# Altium integrated library Linear Technology Power Management LDO Linear Regulators.IntLib: 2339 symbols (part 75 of 131)
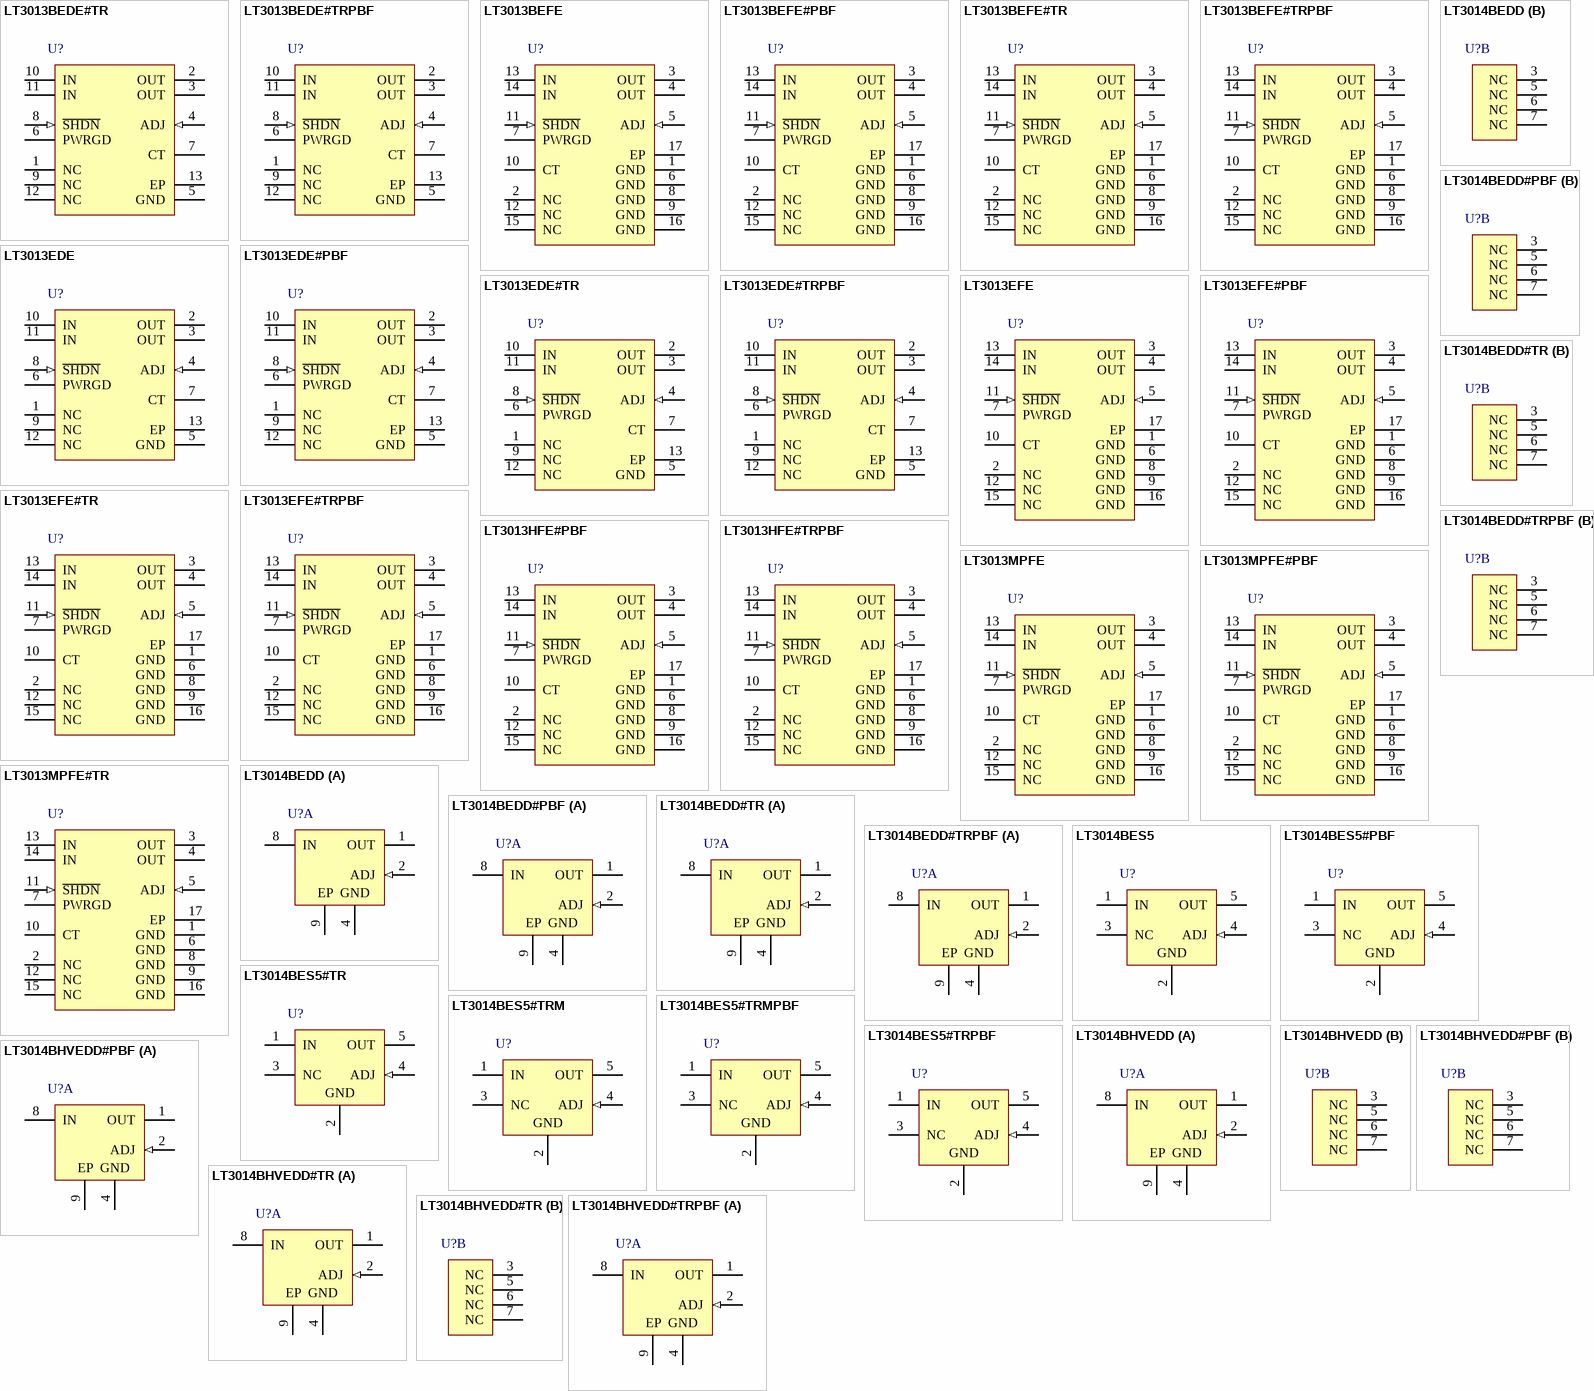
[diagram p143: symbols LT3013BEDE#TR to LT3014BHVEDD#TRPBF]

## LT3013MPFE
designator U?
250 mA, Low Dropout Micropower Linear Regulator with PWRGD, 4 to 80 V Vin, Adjustable Vout, 16-pin SOP (FE-16-EPV-BB), -55 to 125 degC; Manufacturer: Linear Technology; PartNumber: LT3013MPFE; Discrete Pass Element: no; Dropout Voltage(V): 0.4; Iout(mA): 250; Isupply(mA): 0.065; Noise(uV): 100; Number of Outputs: 1; Output Voltage: Adj; PSRR(dB): 75; Vin Max(V): 80; Vin Min(V): 4; Vout Max(V): 60; Vout Min(V): 1.24; DatasheetVersion: Rev. E; PackageVersion: Rev. J, 11/2012; PackageReference: FE-16; PackageDescription: 16-Pin Plastic TSSOP, Body 5 x 4.4 mm, Pitch 0.65 mm; Supplier 1: Newark; Supplier Part Number 1: 51P4628; RoHS: FALSE; Shutdown Current(uA): 1; Mounting Technology: Surface Mount; ComponentLink1Description: Manufacturer URL; ComponentLink1URL: http://www.linear.com/; ComponentLink2Description: Datasheet; ComponentLink2URL: http://cds.linear.com/docs/en/datasheet/3013fe.pdf; ComponentLink3Description: Package Specification; ComponentLink3URL: http://cds.linear.com/docs/en/packaging/05081663__J_FE16(BB).pdf
footprint LT-FE-16-EPV-BB_N (SOP, 16-Leads, Body 5.1x4.5mm, Pitch 0.65mm, Thermal Pad 3.58x2.94mm, IPC Medium Density)
footprint LT-FE-16-EPV-BB_L (SOP, 16-Leads, Body 5.1x4.5mm, Pitch 0.65mm, Thermal Pad 3.58x2.94mm, IPC High Density)
footprint LT-FE-16-EPV-BB_M (SOP, 16-Leads, Body 5.1x4.5mm, Pitch 0.65mm, Thermal Pad 3.58x2.94mm, IPC Low Density)
pins: 1 GND (power) "Ground. The exposed backside of the package is an electrical connection for GND. As such, to ensure optimum device operation and thermal performance, the exposed pad must be connected directly to Pin 5/Pin 6 on the PC board.", 2 NC "No Connect. These pins have no internal connection; connecting NC pins to a copper area for heat dissipation provides a small improvement in thermal performance.", 3 OUT (power) "Output. The output supplies power to the load. A minimum output capacitor of 3.3uF is required to prevent oscillations. Larger output capacitors will be required for applications with large transient loads to limit peak (See Datasheet)", 4 OUT (power) "Output. The output supplies power to the load. A minimum output capacitor of 3.3uF is required to prevent oscillations. Larger output capacitors will be required for applications with large transient loads to limit peak (See Datasheet)", 5 ADJ (in) "Adjust. This is the input to the error amplifier. This pin is internally clamped to +/-7V. It has a bias current of 30nA which flows into the pin (see curve of ADJ Pin Bias Current vs Temperature in the Typical Performance (See Datasheet)", 6 GND (power) "Ground. The exposed backside of the package is an electrical connection for GND. As such, to ensure optimum device operation and thermal performance, the exposed pad must be connected directly to Pin 5/Pin 6 on the PC board.", 7 PWRGD (hiz) "Power Good. The PWRGD flag is an open collector flag to indicate that the output voltage has come up to above 90% of the nominal output voltage. There is no internal pull-up on this pin; a pull-up resistor must be used. The (See Datasheet)", 8 GND (power) "Ground. The exposed backside of the package is an electrical connection for GND. As such, to ensure optimum device operation and thermal performance, the exposed pad must be connected directly to Pin 5/Pin 6 on the PC board.", 9 GND (power) "Ground. The exposed backside of the package is an electrical connection for GND. As such, to ensure optimum device operation and thermal performance, the exposed pad must be connected directly to Pin 5/Pin 6 on the PC board.", 10 CT "Timing Capacitor. The CT pin allows the use of a small capacitor to delay the timing between the point where the output crosses the PWRGD threshold and the PWRGD flag changes to a high impedance state. Current out of this (See Datasheet)", 11 ~{SHDN} (in) "Shutdown. The S\H\D\N\ pin is used to put the LT3013 into a low power shutdown state. The output will be off when the S\H\D\N\ pin is pulled low. The S\H\D\N\ pin can be driven either by 5V logic or open-collector logic with (See Datasheet)", 12 NC "No Connect. These pins have no internal connection; connecting NC pins to a copper area for heat dissipation provides a small improvement in thermal performance.", 13 IN (power) "Input. Power is supplied to the device through the IN pin. A bypass capacitor is required on this pin if the device is more than six inches away from the main input filter capacitor. In general, the output impedance of a (See Datasheet)", 14 IN (power) "Input. Power is supplied to the device through the IN pin. A bypass capacitor is required on this pin if the device is more than six inches away from the main input filter capacitor. In general, the output impedance of a (See Datasheet)", 15 NC "No Connect. These pins have no internal connection; connecting NC pins to a copper area for heat dissipation provides a small improvement in thermal performance.", 16 GND (power) "Ground. The exposed backside of the package is an electrical connection for GND. As such, to ensure optimum device operation and thermal performance, the exposed pad must be connected directly to Pin 5/Pin 6 on the PC board.", 17 EP (power) "Ground. The exposed backside of the package is an electrical connection for GND. As such, to ensure optimum device operation and thermal performance, the exposed pad must be connected directly to Pin 5/Pin 6 on the PC board."

## LT3013MPFE#PBF
designator U?
250 mA, Low Dropout Micropower Linear Regulator with PWRGD, 4 to 80 V Vin, Adjustable Vout, 16-pin SOP (FE-16-EPV-BB), -55 to 125 degC, Pb-Free; Manufacturer: Linear Technology; PartNumber: LT3013MPFE#PBF; Discrete Pass Element: no; Dropout Voltage(V): 0.4; Iout(mA): 250; Isupply(mA): 0.065; Noise(uV): 100; Number of Outputs: 1; Output Voltage: Adj; PSRR(dB): 75; Vin Max(V): 80; Vin Min(V): 4; Vout Max(V): 60; Vout Min(V): 1.24; DatasheetVersion: Rev. E; PackageVersion: Rev. J, 11/2012; PackageReference: FE-16; PackageDescription: 16-Pin Plastic TSSOP, Body 5 x 4.4 mm, Pitch 0.65 mm; Supplier 1: Digi-Key; Supplier Part Number 1: LT3013MPFE#PBF-ND; Supplier 2: Newark; Supplier Part Number 2: 25R2550; RoHS: TRUE; Shutdown Current(uA): 1; Mounting Technology: Surface Mount; ComponentLink1Description: Manufacturer URL; ComponentLink1URL: http://www.linear.com/; ComponentLink2Description: Datasheet; ComponentLink2URL: http://cds.linear.com/docs/en/datasheet/3013fe.pdf; ComponentLink3Description: Package Specification; ComponentLink3URL: http://cds.linear.com/docs/en/packaging/05081663__J_FE16(BB).pdf
footprint LT-FE-16-EPV-BB_N (SOP, 16-Leads, Body 5.1x4.5mm, Pitch 0.65mm, Thermal Pad 3.58x2.94mm, IPC Medium Density)
footprint LT-FE-16-EPV-BB_L (SOP, 16-Leads, Body 5.1x4.5mm, Pitch 0.65mm, Thermal Pad 3.58x2.94mm, IPC High Density)
footprint LT-FE-16-EPV-BB_M (SOP, 16-Leads, Body 5.1x4.5mm, Pitch 0.65mm, Thermal Pad 3.58x2.94mm, IPC Low Density)
pins: 1 GND (power) "Ground. The exposed backside of the package is an electrical connection for GND. As such, to ensure optimum device operation and thermal performance, the exposed pad must be connected directly to Pin 5/Pin 6 on the PC board.", 2 NC "No Connect. These pins have no internal connection; connecting NC pins to a copper area for heat dissipation provides a small improvement in thermal performance.", 3 OUT (power) "Output. The output supplies power to the load. A minimum output capacitor of 3.3uF is required to prevent oscillations. Larger output capacitors will be required for applications with large transient loads to limit peak (See Datasheet)", 4 OUT (power) "Output. The output supplies power to the load. A minimum output capacitor of 3.3uF is required to prevent oscillations. Larger output capacitors will be required for applications with large transient loads to limit peak (See Datasheet)", 5 ADJ (in) "Adjust. This is the input to the error amplifier. This pin is internally clamped to +/-7V. It has a bias current of 30nA which flows into the pin (see curve of ADJ Pin Bias Current vs Temperature in the Typical Performance (See Datasheet)", 6 GND (power) "Ground. The exposed backside of the package is an electrical connection for GND. As such, to ensure optimum device operation and thermal performance, the exposed pad must be connected directly to Pin 5/Pin 6 on the PC board.", 7 PWRGD (hiz) "Power Good. The PWRGD flag is an open collector flag to indicate that the output voltage has come up to above 90% of the nominal output voltage. There is no internal pull-up on this pin; a pull-up resistor must be used. The (See Datasheet)", 8 GND (power) "Ground. The exposed backside of the package is an electrical connection for GND. As such, to ensure optimum device operation and thermal performance, the exposed pad must be connected directly to Pin 5/Pin 6 on the PC board.", 9 GND (power) "Ground. The exposed backside of the package is an electrical connection for GND. As such, to ensure optimum device operation and thermal performance, the exposed pad must be connected directly to Pin 5/Pin 6 on the PC board.", 10 CT "Timing Capacitor. The CT pin allows the use of a small capacitor to delay the timing between the point where the output crosses the PWRGD threshold and the PWRGD flag changes to a high impedance state. Current out of this (See Datasheet)", 11 ~{SHDN} (in) "Shutdown. The S\H\D\N\ pin is used to put the LT3013 into a low power shutdown state. The output will be off when the S\H\D\N\ pin is pulled low. The S\H\D\N\ pin can be driven either by 5V logic or open-collector logic with (See Datasheet)", 12 NC "No Connect. These pins have no internal connection; connecting NC pins to a copper area for heat dissipation provides a small improvement in thermal performance.", 13 IN (power) "Input. Power is supplied to the device through the IN pin. A bypass capacitor is required on this pin if the device is more than six inches away from the main input filter capacitor. In general, the output impedance of a (See Datasheet)", 14 IN (power) "Input. Power is supplied to the device through the IN pin. A bypass capacitor is required on this pin if the device is more than six inches away from the main input filter capacitor. In general, the output impedance of a (See Datasheet)", 15 NC "No Connect. These pins have no internal connection; connecting NC pins to a copper area for heat dissipation provides a small improvement in thermal performance.", 16 GND (power) "Ground. The exposed backside of the package is an electrical connection for GND. As such, to ensure optimum device operation and thermal performance, the exposed pad must be connected directly to Pin 5/Pin 6 on the PC board.", 17 EP (power) "Ground. The exposed backside of the package is an electrical connection for GND. As such, to ensure optimum device operation and thermal performance, the exposed pad must be connected directly to Pin 5/Pin 6 on the PC board."

## LT3013MPFE#TR
designator U?
250 mA, Low Dropout Micropower Linear Regulator with PWRGD, 4 to 80 V Vin, Adjustable Vout, 16-pin SOP (FE-16-EPV-BB), -55 to 125 degC, Tape and Reel; Manufacturer: Linear Technology; PartNumber: LT3013MPFE#TR; Discrete Pass Element: no; Dropout Voltage(V): 0.4; Iout(mA): 250; Isupply(mA): 0.065; Noise(uV): 100; Number of Outputs: 1; Output Voltage: Adj; PSRR(dB): 75; Vin Max(V): 80; Vin Min(V): 4; Vout Max(V): 60; Vout Min(V): 1.24; DatasheetVersion: Rev. E; PackageVersion: Rev. J, 11/2012; PackageReference: FE-16; PackageDescription: 16-Pin Plastic TSSOP, Body 5 x 4.4 mm, Pitch 0.65 mm; Packing: Tape and Reel; RoHS: FALSE; Shutdown Current(uA): 1; Mounting Technology: Surface Mount; ComponentLink1Description: Manufacturer URL; ComponentLink1URL: http://www.linear.com/; ComponentLink2Description: Datasheet; ComponentLink2URL: http://cds.linear.com/docs/en/datasheet/3013fe.pdf; ComponentLink3Description: Package Specification; ComponentLink3URL: http://cds.linear.com/docs/en/packaging/05081663__J_FE16(BB).pdf
footprint LT-FE-16-EPV-BB_N (SOP, 16-Leads, Body 5.1x4.5mm, Pitch 0.65mm, Thermal Pad 3.58x2.94mm, IPC Medium Density)
footprint LT-FE-16-EPV-BB_L (SOP, 16-Leads, Body 5.1x4.5mm, Pitch 0.65mm, Thermal Pad 3.58x2.94mm, IPC High Density)
footprint LT-FE-16-EPV-BB_M (SOP, 16-Leads, Body 5.1x4.5mm, Pitch 0.65mm, Thermal Pad 3.58x2.94mm, IPC Low Density)
pins: 1 GND (power) "Ground. The exposed backside of the package is an electrical connection for GND. As such, to ensure optimum device operation and thermal performance, the exposed pad must be connected directly to Pin 5/Pin 6 on the PC board.", 2 NC "No Connect. These pins have no internal connection; connecting NC pins to a copper area for heat dissipation provides a small improvement in thermal performance.", 3 OUT (power) "Output. The output supplies power to the load. A minimum output capacitor of 3.3uF is required to prevent oscillations. Larger output capacitors will be required for applications with large transient loads to limit peak (See Datasheet)", 4 OUT (power) "Output. The output supplies power to the load. A minimum output capacitor of 3.3uF is required to prevent oscillations. Larger output capacitors will be required for applications with large transient loads to limit peak (See Datasheet)", 5 ADJ (in) "Adjust. This is the input to the error amplifier. This pin is internally clamped to +/-7V. It has a bias current of 30nA which flows into the pin (see curve of ADJ Pin Bias Current vs Temperature in the Typical Performance (See Datasheet)", 6 GND (power) "Ground. The exposed backside of the package is an electrical connection for GND. As such, to ensure optimum device operation and thermal performance, the exposed pad must be connected directly to Pin 5/Pin 6 on the PC board.", 7 PWRGD (hiz) "Power Good. The PWRGD flag is an open collector flag to indicate that the output voltage has come up to above 90% of the nominal output voltage. There is no internal pull-up on this pin; a pull-up resistor must be used. The (See Datasheet)", 8 GND (power) "Ground. The exposed backside of the package is an electrical connection for GND. As such, to ensure optimum device operation and thermal performance, the exposed pad must be connected directly to Pin 5/Pin 6 on the PC board.", 9 GND (power) "Ground. The exposed backside of the package is an electrical connection for GND. As such, to ensure optimum device operation and thermal performance, the exposed pad must be connected directly to Pin 5/Pin 6 on the PC board.", 10 CT "Timing Capacitor. The CT pin allows the use of a small capacitor to delay the timing between the point where the output crosses the PWRGD threshold and the PWRGD flag changes to a high impedance state. Current out of this (See Datasheet)", 11 ~{SHDN} (in) "Shutdown. The S\H\D\N\ pin is used to put the LT3013 into a low power shutdown state. The output will be off when the S\H\D\N\ pin is pulled low. The S\H\D\N\ pin can be driven either by 5V logic or open-collector logic with (See Datasheet)", 12 NC "No Connect. These pins have no internal connection; connecting NC pins to a copper area for heat dissipation provides a small improvement in thermal performance.", 13 IN (power) "Input. Power is supplied to the device through the IN pin. A bypass capacitor is required on this pin if the device is more than six inches away from the main input filter capacitor. In general, the output impedance of a (See Datasheet)", 14 IN (power) "Input. Power is supplied to the device through the IN pin. A bypass capacitor is required on this pin if the device is more than six inches away from the main input filter capacitor. In general, the output impedance of a (See Datasheet)", 15 NC "No Connect. These pins have no internal connection; connecting NC pins to a copper area for heat dissipation provides a small improvement in thermal performance.", 16 GND (power) "Ground. The exposed backside of the package is an electrical connection for GND. As such, to ensure optimum device operation and thermal performance, the exposed pad must be connected directly to Pin 5/Pin 6 on the PC board.", 17 EP (power) "Ground. The exposed backside of the package is an electrical connection for GND. As such, to ensure optimum device operation and thermal performance, the exposed pad must be connected directly to Pin 5/Pin 6 on the PC board."

## LT3014BEDD
designator U?
20 mA, Low Dropout Micropower Linear Regulator, 3 to 80 V Vin, Adjustable Vout, 8-pin SON (DD-8), -40 to 125 degC; Manufacturer: Linear Technology; PartNumber: LT3014BEDD; Discrete Pass Element: no; Dropout Voltage(V): 0.35; Iout(mA): 20; Isupply(mA): 0.007; Noise(uV): 115; Number of Outputs: 1; Output Voltage: Adj; PSRR(dB): 70; Vin Max(V): 80; Vin Min(V): 3; Vout Max(V): 60; Vout Min(V): 1.22; DatasheetVersion: Rev. A; PackageVersion: Jun-10; PackageReference: DD-8; PackageDescription: 8-Pin Plastic DFN, Body 3 x 3 mm, Pitch 0.5 mm; RoHS: FALSE; Mounting Technology: Surface Mount; Code_JEDEC: MO-229; ComponentLink1Description: Manufacturer URL; ComponentLink1URL: http://www.linear.com/; ComponentLink2Description: Datasheet; ComponentLink2URL: http://cds.linear.com/docs/en/datasheet/3014bfa.pdf; ComponentLink3Description: Package Specification; ComponentLink3URL: http://cds.linear.com/docs/en/packaging/DFN_8_05-08-1698.pdf
footprint LT-DD-8_V (SON, 8-Leads, Body 3x3mm, Pitch 0.5mm, Thermal Pad 1.65x2.38 mm, IPC Low Density)
part A pins: 1 OUT (power) "Output. The output supplies power to the load. A minimum output capacitor of 0.47uF is required to prevent oscillations. Larger output capacitors will be required for applications with large transient loads to limit peak (See Datasheet)", 2 ADJ (in) "Adjust. This is the input to the error amplifier. This pin is internally clamped to +/-7V. It has a bias current of 4nA which flows into the pin (see curve of ADJ Pin Bias Current vs Temperature in the Typical Performance (See Datasheet)", 4 GND (power) "Ground.", 8 IN (power) "Input. Power is supplied to the device through the IN pin. A bypass capacitor is required on this pin if the device is more than six inches away from the main input filter capacitor. In general, the output impedance of a (See Datasheet)", 9 EP (power)
part B pins: 3 NC "No Connect. No Connect pins may be floated, tied to IN or tied to GND.", 5 NC "No Connect. No Connect pins may be floated, tied to IN or tied to GND.", 6 NC "No Connect. No Connect pins may be floated, tied to IN or tied to GND.", 7 NC "No Connect. No Connect pins may be floated, tied to IN or tied to GND."

## LT3014BEDD#PBF
designator U?
20 mA, Low Dropout Micropower Linear Regulator, 3 to 80 V Vin, Adjustable Vout, 8-pin SON (DD-8), -40 to 125 degC, Pb-Free; Manufacturer: Linear Technology; PartNumber: LT3014BEDD#PBF; Discrete Pass Element: no; Dropout Voltage(V): 0.35; Iout(mA): 20; Isupply(mA): 0.007; Noise(uV): 115; Number of Outputs: 1; Output Voltage: Adj; PSRR(dB): 70; Vin Max(V): 80; Vin Min(V): 3; Vout Max(V): 60; Vout Min(V): 1.22; DatasheetVersion: Rev. A; PackageVersion: Jun-10; PackageReference: DD-8; PackageDescription: 8-Pin Plastic DFN, Body 3 x 3 mm, Pitch 0.5 mm; Supplier 1: Digi-Key; Supplier Part Number 1: LT3014BEDD#PBF-ND; Supplier 2: Farnell; Supplier Part Number 2: 2295247; Supplier 3: Newark; Supplier Part Number 3: 57M7887; RoHS: TRUE; Mounting Technology: Surface Mount; Code_JEDEC: MO-229; ComponentLink1Description: Manufacturer URL; ComponentLink1URL: http://www.linear.com/; ComponentLink2Description: Datasheet; ComponentLink2URL: http://cds.linear.com/docs/en/datasheet/3014bfa.pdf; ComponentLink3Description: Package Specification; ComponentLink3URL: http://cds.linear.com/docs/en/packaging/DFN_8_05-08-1698.pdf
footprint LT-DD-8_V (SON, 8-Leads, Body 3x3mm, Pitch 0.5mm, Thermal Pad 1.65x2.38 mm, IPC Low Density)
part A pins: 1 OUT (power) "Output. The output supplies power to the load. A minimum output capacitor of 0.47uF is required to prevent oscillations. Larger output capacitors will be required for applications with large transient loads to limit peak (See Datasheet)", 2 ADJ (in) "Adjust. This is the input to the error amplifier. This pin is internally clamped to +/-7V. It has a bias current of 4nA which flows into the pin (see curve of ADJ Pin Bias Current vs Temperature in the Typical Performance (See Datasheet)", 4 GND (power) "Ground.", 8 IN (power) "Input. Power is supplied to the device through the IN pin. A bypass capacitor is required on this pin if the device is more than six inches away from the main input filter capacitor. In general, the output impedance of a (See Datasheet)", 9 EP (power)
part B pins: 3 NC "No Connect. No Connect pins may be floated, tied to IN or tied to GND.", 5 NC "No Connect. No Connect pins may be floated, tied to IN or tied to GND.", 6 NC "No Connect. No Connect pins may be floated, tied to IN or tied to GND.", 7 NC "No Connect. No Connect pins may be floated, tied to IN or tied to GND."

## LT3014BEDD#TR
designator U?
20 mA, Low Dropout Micropower Linear Regulator, 3 to 80 V Vin, Adjustable Vout, 8-pin SON (DD-8), -40 to 125 degC, Tape and Reel; Manufacturer: Linear Technology; PartNumber: LT3014BEDD#TR; Discrete Pass Element: no; Dropout Voltage(V): 0.35; Iout(mA): 20; Isupply(mA): 0.007; Noise(uV): 115; Number of Outputs: 1; Output Voltage: Adj; PSRR(dB): 70; Vin Max(V): 80; Vin Min(V): 3; Vout Max(V): 60; Vout Min(V): 1.22; DatasheetVersion: Rev. A; PackageVersion: Jun-10; PackageReference: DD-8; PackageDescription: 8-Pin Plastic DFN, Body 3 x 3 mm, Pitch 0.5 mm; Packing: Tape and Reel; RoHS: FALSE; Mounting Technology: Surface Mount; Code_JEDEC: MO-229; ComponentLink1Description: Manufacturer URL; ComponentLink1URL: http://www.linear.com/; ComponentLink2Description: Datasheet; ComponentLink2URL: http://cds.linear.com/docs/en/datasheet/3014bfa.pdf; ComponentLink3Description: Package Specification; ComponentLink3URL: http://cds.linear.com/docs/en/packaging/DFN_8_05-08-1698.pdf
footprint LT-DD-8_V (SON, 8-Leads, Body 3x3mm, Pitch 0.5mm, Thermal Pad 1.65x2.38 mm, IPC Low Density)
part A pins: 1 OUT (power) "Output. The output supplies power to the load. A minimum output capacitor of 0.47uF is required to prevent oscillations. Larger output capacitors will be required for applications with large transient loads to limit peak (See Datasheet)", 2 ADJ (in) "Adjust. This is the input to the error amplifier. This pin is internally clamped to +/-7V. It has a bias current of 4nA which flows into the pin (see curve of ADJ Pin Bias Current vs Temperature in the Typical Performance (See Datasheet)", 4 GND (power) "Ground.", 8 IN (power) "Input. Power is supplied to the device through the IN pin. A bypass capacitor is required on this pin if the device is more than six inches away from the main input filter capacitor. In general, the output impedance of a (See Datasheet)", 9 EP (power)
part B pins: 3 NC "No Connect. No Connect pins may be floated, tied to IN or tied to GND.", 5 NC "No Connect. No Connect pins may be floated, tied to IN or tied to GND.", 6 NC "No Connect. No Connect pins may be floated, tied to IN or tied to GND.", 7 NC "No Connect. No Connect pins may be floated, tied to IN or tied to GND."

## LT3014BEDD#TRPBF
designator U?
20 mA, Low Dropout Micropower Linear Regulator, 3 to 80 V Vin, Adjustable Vout, 8-pin SON (DD-8), -40 to 125 degC, Pb-Free, Tape and Reel; Manufacturer: Linear Technology; PartNumber: LT3014BEDD#TRPBF; Discrete Pass Element: no; Dropout Voltage(V): 0.35; Iout(mA): 20; Isupply(mA): 0.007; Noise(uV): 115; Number of Outputs: 1; Output Voltage: Adj; PSRR(dB): 70; Vin Max(V): 80; Vin Min(V): 3; Vout Max(V): 60; Vout Min(V): 1.22; DatasheetVersion: Rev. A; PackageVersion: Jun-10; PackageReference: DD-8; PackageDescription: 8-Pin Plastic DFN, Body 3 x 3 mm, Pitch 0.5 mm; Supplier 1: Digi-Key; Supplier Part Number 1: LT3014BEDD#TRPBF-ND; Packing: Tape and Reel; RoHS: TRUE; Mounting Technology: Surface Mount; Code_JEDEC: MO-229; ComponentLink1Description: Manufacturer URL; ComponentLink1URL: http://www.linear.com/; ComponentLink2Description: Datasheet; ComponentLink2URL: http://cds.linear.com/docs/en/datasheet/3014bfa.pdf; ComponentLink3Description: Package Specification; ComponentLink3URL: http://cds.linear.com/docs/en/packaging/DFN_8_05-08-1698.pdf
footprint LT-DD-8_V (SON, 8-Leads, Body 3x3mm, Pitch 0.5mm, Thermal Pad 1.65x2.38 mm, IPC Low Density)
part A pins: 1 OUT (power) "Output. The output supplies power to the load. A minimum output capacitor of 0.47uF is required to prevent oscillations. Larger output capacitors will be required for applications with large transient loads to limit peak (See Datasheet)", 2 ADJ (in) "Adjust. This is the input to the error amplifier. This pin is internally clamped to +/-7V. It has a bias current of 4nA which flows into the pin (see curve of ADJ Pin Bias Current vs Temperature in the Typical Performance (See Datasheet)", 4 GND (power) "Ground.", 8 IN (power) "Input. Power is supplied to the device through the IN pin. A bypass capacitor is required on this pin if the device is more than six inches away from the main input filter capacitor. In general, the output impedance of a (See Datasheet)", 9 EP (power)
part B pins: 3 NC "No Connect. No Connect pins may be floated, tied to IN or tied to GND.", 5 NC "No Connect. No Connect pins may be floated, tied to IN or tied to GND.", 6 NC "No Connect. No Connect pins may be floated, tied to IN or tied to GND.", 7 NC "No Connect. No Connect pins may be floated, tied to IN or tied to GND."

## LT3014BES5
designator U?
20 mA, Low Dropout Micropower Linear Regulator, 3 to 80 V Vin, Adjustable Vout, 5-pin SOT23 (S5-5), -40 to 125 degC; Manufacturer: Linear Technology; PartNumber: LT3014BES5; Discrete Pass Element: no; Dropout Voltage(V): 0.35; Iout(mA): 20; Isupply(mA): 0.007; Noise(uV): 115; Number of Outputs: 1; Output Voltage: Adj; PSRR(dB): 70; Vin Max(V): 80; Vin Min(V): 3; Vout Max(V): 60; Vout Min(V): 1.22; DatasheetVersion: Rev. A; PackageVersion: Jun-10; PackageReference: S5-5; PackageDescription: 5-Pin Plastic TSOT-23, Body 1.63 x 2.90 mm, Pitch 0.95 mm; RoHS: FALSE; Mounting Technology: Surface Mount; Code_JEDEC: MO-193; ComponentLink1Description: Manufacturer URL; ComponentLink1URL: http://www.linear.com/; ComponentLink2Description: Datasheet; ComponentLink2URL: http://cds.linear.com/docs/en/datasheet/3014bfa.pdf; ComponentLink3Description: Package Specification; ComponentLink3URL: http://cds.linear.com/docs/en/packaging/SOT_5_05-08-1635.pdf
footprint LT-S5-5-TSOT-23_N (SOT23, 5-Leads, Body 2.90x1.63mm, Pitch 0.95mm, IPC Medium Density)
footprint LT-S5-5-TSOT-23_L (SOT23, 5-Leads, Body 2.90x1.63mm, Pitch 0.95mm, IPC High Density)
footprint LT-S5-5-TSOT-23_M (SOT23, 5-Leads, Body 2.90x1.63mm, Pitch 0.95mm, IPC Low Density)
pins: 1 IN (power) "Input. Power is supplied to the device through the IN pin. A bypass capacitor is required on this pin if the device is more than six inches away from the main input filter capacitor. In general, the output impedance of a (See Datasheet)", 2 GND (power) "Ground.", 3 NC "No Connect. No Connect pins may be floated, tied to IN or tied to GND.", 4 ADJ (in) "Adjust. This is the input to the error amplifier. This pin is internally clamped to +/-7V. It has a bias current of 4nA which flows into the pin (see curve of ADJ Pin Bias Current vs Temperature in the Typical Performance (See Datasheet)", 5 OUT (power) "Output. The output supplies power to the load. A minimum output capacitor of 0.47uF is required to prevent oscillations. Larger output capacitors will be required for applications with large transient loads to limit peak (See Datasheet)"

## LT3014BES5#PBF
designator U?
20 mA, Low Dropout Micropower Linear Regulator, 3 to 80 V Vin, Adjustable Vout, 5-pin SOT23 (S5-5), -40 to 125 degC, Pb-Free; Manufacturer: Linear Technology; PartNumber: LT3014BES5#PBF; Discrete Pass Element: no; Dropout Voltage(V): 0.35; Iout(mA): 20; Isupply(mA): 0.007; Noise(uV): 115; Number of Outputs: 1; Output Voltage: Adj; PSRR(dB): 70; Vin Max(V): 80; Vin Min(V): 3; Vout Max(V): 60; Vout Min(V): 1.22; DatasheetVersion: Rev. A; PackageVersion: Jun-10; PackageReference: S5-5; PackageDescription: 5-Pin Plastic TSOT-23, Body 1.63 x 2.90 mm, Pitch 0.95 mm; Supplier 1: Newark; Supplier Part Number 1: 86R9193; RoHS: TRUE; Mounting Technology: Surface Mount; Code_JEDEC: MO-193; ComponentLink1Description: Manufacturer URL; ComponentLink1URL: http://www.linear.com/; ComponentLink2Description: Datasheet; ComponentLink2URL: http://cds.linear.com/docs/en/datasheet/3014bfa.pdf; ComponentLink3Description: Package Specification; ComponentLink3URL: http://cds.linear.com/docs/en/packaging/SOT_5_05-08-1635.pdf
footprint LT-S5-5-TSOT-23_N (SOT23, 5-Leads, Body 2.90x1.63mm, Pitch 0.95mm, IPC Medium Density)
footprint LT-S5-5-TSOT-23_L (SOT23, 5-Leads, Body 2.90x1.63mm, Pitch 0.95mm, IPC High Density)
footprint LT-S5-5-TSOT-23_M (SOT23, 5-Leads, Body 2.90x1.63mm, Pitch 0.95mm, IPC Low Density)
pins: 1 IN (power) "Input. Power is supplied to the device through the IN pin. A bypass capacitor is required on this pin if the device is more than six inches away from the main input filter capacitor. In general, the output impedance of a (See Datasheet)", 2 GND (power) "Ground.", 3 NC "No Connect. No Connect pins may be floated, tied to IN or tied to GND.", 4 ADJ (in) "Adjust. This is the input to the error amplifier. This pin is internally clamped to +/-7V. It has a bias current of 4nA which flows into the pin (see curve of ADJ Pin Bias Current vs Temperature in the Typical Performance (See Datasheet)", 5 OUT (power) "Output. The output supplies power to the load. A minimum output capacitor of 0.47uF is required to prevent oscillations. Larger output capacitors will be required for applications with large transient loads to limit peak (See Datasheet)"

## LT3014BES5#TR
designator U?
20 mA, Low Dropout Micropower Linear Regulator, 3 to 80 V Vin, Adjustable Vout, 5-pin SOT23 (S5-5), -40 to 125 degC, Tape and Reel; Manufacturer: Linear Technology; PartNumber: LT3014BES5#TR; Discrete Pass Element: no; Dropout Voltage(V): 0.35; Iout(mA): 20; Isupply(mA): 0.007; Noise(uV): 115; Number of Outputs: 1; Output Voltage: Adj; PSRR(dB): 70; Vin Max(V): 80; Vin Min(V): 3; Vout Max(V): 60; Vout Min(V): 1.22; DatasheetVersion: Rev. A; PackageVersion: Jun-10; PackageReference: S5-5; PackageDescription: 5-Pin Plastic TSOT-23, Body 1.63 x 2.90 mm, Pitch 0.95 mm; Supplier 1: Newark; Supplier Part Number 1: 57M7890; Packing: Tape and Reel; RoHS: FALSE; Mounting Technology: Surface Mount; Code_JEDEC: MO-193; ComponentLink1Description: Manufacturer URL; ComponentLink1URL: http://www.linear.com/; ComponentLink2Description: Datasheet; ComponentLink2URL: http://cds.linear.com/docs/en/datasheet/3014bfa.pdf; ComponentLink3Description: Package Specification; ComponentLink3URL: http://cds.linear.com/docs/en/packaging/SOT_5_05-08-1635.pdf
footprint LT-S5-5-TSOT-23_N (SOT23, 5-Leads, Body 2.90x1.63mm, Pitch 0.95mm, IPC Medium Density)
footprint LT-S5-5-TSOT-23_L (SOT23, 5-Leads, Body 2.90x1.63mm, Pitch 0.95mm, IPC High Density)
footprint LT-S5-5-TSOT-23_M (SOT23, 5-Leads, Body 2.90x1.63mm, Pitch 0.95mm, IPC Low Density)
pins: 1 IN (power) "Input. Power is supplied to the device through the IN pin. A bypass capacitor is required on this pin if the device is more than six inches away from the main input filter capacitor. In general, the output impedance of a (See Datasheet)", 2 GND (power) "Ground.", 3 NC "No Connect. No Connect pins may be floated, tied to IN or tied to GND.", 4 ADJ (in) "Adjust. This is the input to the error amplifier. This pin is internally clamped to +/-7V. It has a bias current of 4nA which flows into the pin (see curve of ADJ Pin Bias Current vs Temperature in the Typical Performance (See Datasheet)", 5 OUT (power) "Output. The output supplies power to the load. A minimum output capacitor of 0.47uF is required to prevent oscillations. Larger output capacitors will be required for applications with large transient loads to limit peak (See Datasheet)"

## LT3014BES5#TRM
designator U?
20 mA, Low Dropout Micropower Linear Regulator, 3 to 80 V Vin, Adjustable Vout, 5-pin SOT23 (S5-5), -40 to 125 degC, Mini Tape and Reel; Manufacturer: Linear Technology; PartNumber: LT3014BES5#TRM; Discrete Pass Element: no; Dropout Voltage(V): 0.35; Iout(mA): 20; Isupply(mA): 0.007; Noise(uV): 115; Number of Outputs: 1; Output Voltage: Adj; PSRR(dB): 70; Vin Max(V): 80; Vin Min(V): 3; Vout Max(V): 60; Vout Min(V): 1.22; DatasheetVersion: Rev. A; PackageVersion: Jun-10; PackageReference: S5-5; PackageDescription: 5-Pin Plastic TSOT-23, Body 1.63 x 2.90 mm, Pitch 0.95 mm; Packing: Mini Tape and Reel; RoHS: FALSE; Mounting Technology: Surface Mount; Code_JEDEC: MO-193; ComponentLink1Description: Manufacturer URL; ComponentLink1URL: http://www.linear.com/; ComponentLink2Description: Datasheet; ComponentLink2URL: http://cds.linear.com/docs/en/datasheet/3014bfa.pdf; ComponentLink3Description: Package Specification; ComponentLink3URL: http://cds.linear.com/docs/en/packaging/SOT_5_05-08-1635.pdf
footprint LT-S5-5-TSOT-23_N (SOT23, 5-Leads, Body 2.90x1.63mm, Pitch 0.95mm, IPC Medium Density)
footprint LT-S5-5-TSOT-23_L (SOT23, 5-Leads, Body 2.90x1.63mm, Pitch 0.95mm, IPC High Density)
footprint LT-S5-5-TSOT-23_M (SOT23, 5-Leads, Body 2.90x1.63mm, Pitch 0.95mm, IPC Low Density)
pins: 1 IN (power) "Input. Power is supplied to the device through the IN pin. A bypass capacitor is required on this pin if the device is more than six inches away from the main input filter capacitor. In general, the output impedance of a (See Datasheet)", 2 GND (power) "Ground.", 3 NC "No Connect. No Connect pins may be floated, tied to IN or tied to GND.", 4 ADJ (in) "Adjust. This is the input to the error amplifier. This pin is internally clamped to +/-7V. It has a bias current of 4nA which flows into the pin (see curve of ADJ Pin Bias Current vs Temperature in the Typical Performance (See Datasheet)", 5 OUT (power) "Output. The output supplies power to the load. A minimum output capacitor of 0.47uF is required to prevent oscillations. Larger output capacitors will be required for applications with large transient loads to limit peak (See Datasheet)"

## LT3014BES5#TRMPBF
designator U?
20 mA, Low Dropout Micropower Linear Regulator, 3 to 80 V Vin, Adjustable Vout, 5-pin SOT23 (S5-5), -40 to 125 degC, Pb-Free, Mini Tape and Reel; Manufacturer: Linear Technology; PartNumber: LT3014BES5#TRMPBF; Discrete Pass Element: no; Dropout Voltage(V): 0.35; Iout(mA): 20; Isupply(mA): 0.007; Noise(uV): 115; Number of Outputs: 1; Output Voltage: Adj; PSRR(dB): 70; Vin Max(V): 80; Vin Min(V): 3; Vout Max(V): 60; Vout Min(V): 1.22; DatasheetVersion: Rev. A; PackageVersion: Jun-10; PackageReference: S5-5; PackageDescription: 5-Pin Plastic TSOT-23, Body 1.63 x 2.90 mm, Pitch 0.95 mm; Supplier 1: Digi-Key; Supplier Part Number 1: LT3014BES5#TRMPBFTR-ND; Supplier 2: Digi-Key; Supplier Part Number 2: LT3014BES5#TRMPBFCT-ND; Supplier 3: Digi-Key; Supplier Part Number 3: LT3014BES5#TRMPBFDKR-ND; Supplier 4: Newark; Supplier Part Number 4: 57M7892; Packing: Mini Tape and Reel; RoHS: TRUE; Mounting Technology: Surface Mount; Code_JEDEC: MO-193; ComponentLink1Description: Manufacturer URL; ComponentLink1URL: http://www.linear.com/; ComponentLink2Description: Datasheet; ComponentLink2URL: http://cds.linear.com/docs/en/datasheet/3014bfa.pdf; ComponentLink3Description: Package Specification; ComponentLink3URL: http://cds.linear.com/docs/en/packaging/SOT_5_05-08-1635.pdf
footprint LT-S5-5-TSOT-23_N (SOT23, 5-Leads, Body 2.90x1.63mm, Pitch 0.95mm, IPC Medium Density)
footprint LT-S5-5-TSOT-23_L (SOT23, 5-Leads, Body 2.90x1.63mm, Pitch 0.95mm, IPC High Density)
footprint LT-S5-5-TSOT-23_M (SOT23, 5-Leads, Body 2.90x1.63mm, Pitch 0.95mm, IPC Low Density)
pins: 1 IN (power) "Input. Power is supplied to the device through the IN pin. A bypass capacitor is required on this pin if the device is more than six inches away from the main input filter capacitor. In general, the output impedance of a (See Datasheet)", 2 GND (power) "Ground.", 3 NC "No Connect. No Connect pins may be floated, tied to IN or tied to GND.", 4 ADJ (in) "Adjust. This is the input to the error amplifier. This pin is internally clamped to +/-7V. It has a bias current of 4nA which flows into the pin (see curve of ADJ Pin Bias Current vs Temperature in the Typical Performance (See Datasheet)", 5 OUT (power) "Output. The output supplies power to the load. A minimum output capacitor of 0.47uF is required to prevent oscillations. Larger output capacitors will be required for applications with large transient loads to limit peak (See Datasheet)"

## LT3014BES5#TRPBF
designator U?
20 mA, Low Dropout Micropower Linear Regulator, 3 to 80 V Vin, Adjustable Vout, 5-pin SOT23 (S5-5), -40 to 125 degC, Pb-Free, Tape and Reel; Manufacturer: Linear Technology; PartNumber: LT3014BES5#TRPBF; Discrete Pass Element: no; Dropout Voltage(V): 0.35; Iout(mA): 20; Isupply(mA): 0.007; Noise(uV): 115; Number of Outputs: 1; Output Voltage: Adj; PSRR(dB): 70; Vin Max(V): 80; Vin Min(V): 3; Vout Max(V): 60; Vout Min(V): 1.22; DatasheetVersion: Rev. A; PackageVersion: Jun-10; PackageReference: S5-5; PackageDescription: 5-Pin Plastic TSOT-23, Body 1.63 x 2.90 mm, Pitch 0.95 mm; Supplier 1: Digi-Key; Supplier Part Number 1: LT3014BES5#TRPBF-ND; Supplier 2: Newark; Supplier Part Number 2: 57M7893; Packing: Tape and Reel; RoHS: TRUE; Mounting Technology: Surface Mount; Code_JEDEC: MO-193; ComponentLink1Description: Manufacturer URL; ComponentLink1URL: http://www.linear.com/; ComponentLink2Description: Datasheet; ComponentLink2URL: http://cds.linear.com/docs/en/datasheet/3014bfa.pdf; ComponentLink3Description: Package Specification; ComponentLink3URL: http://cds.linear.com/docs/en/packaging/SOT_5_05-08-1635.pdf
footprint LT-S5-5-TSOT-23_N (SOT23, 5-Leads, Body 2.90x1.63mm, Pitch 0.95mm, IPC Medium Density)
footprint LT-S5-5-TSOT-23_L (SOT23, 5-Leads, Body 2.90x1.63mm, Pitch 0.95mm, IPC High Density)
footprint LT-S5-5-TSOT-23_M (SOT23, 5-Leads, Body 2.90x1.63mm, Pitch 0.95mm, IPC Low Density)
pins: 1 IN (power) "Input. Power is supplied to the device through the IN pin. A bypass capacitor is required on this pin if the device is more than six inches away from the main input filter capacitor. In general, the output impedance of a (See Datasheet)", 2 GND (power) "Ground.", 3 NC "No Connect. No Connect pins may be floated, tied to IN or tied to GND.", 4 ADJ (in) "Adjust. This is the input to the error amplifier. This pin is internally clamped to +/-7V. It has a bias current of 4nA which flows into the pin (see curve of ADJ Pin Bias Current vs Temperature in the Typical Performance (See Datasheet)", 5 OUT (power) "Output. The output supplies power to the load. A minimum output capacitor of 0.47uF is required to prevent oscillations. Larger output capacitors will be required for applications with large transient loads to limit peak (See Datasheet)"

## LT3014BHVEDD
designator U?
20 mA, Low Dropout Micropower Linear Regulator, 3 to 80 V Vin, Adjustable Vout, 8-pin SON (DD-8), -40 to 125 degC; Manufacturer: Linear Technology; PartNumber: LT3014BHVEDD; Discrete Pass Element: no; Dropout Voltage(V): 0.35; Iout(mA): 20; Isupply(mA): 0.007; Noise(uV): 115; Number of Outputs: 1; Output Voltage: Adj; PSRR(dB): 70; Vin Max(V): 80; Vin Min(V): 3; Vout Max(V): 60; Vout Min(V): 1.22; DatasheetVersion: Rev. A; PackageVersion: Jun-10; PackageReference: DD-8; PackageDescription: 8-Pin Plastic DFN, Body 3 x 3 mm, Pitch 0.5 mm; RoHS: FALSE; Mounting Technology: Surface Mount; Code_JEDEC: MO-229; ComponentLink1Description: Manufacturer URL; ComponentLink1URL: http://www.linear.com/; ComponentLink2Description: Datasheet; ComponentLink2URL: http://cds.linear.com/docs/en/datasheet/3014bfa.pdf; ComponentLink3Description: Package Specification; ComponentLink3URL: http://cds.linear.com/docs/en/packaging/DFN_8_05-08-1698.pdf
footprint LT-DD-8_V (SON, 8-Leads, Body 3x3mm, Pitch 0.5mm, Thermal Pad 1.65x2.38 mm, IPC Low Density)
part A pins: 1 OUT (power) "Output. The output supplies power to the load. A minimum output capacitor of 0.47uF is required to prevent oscillations. Larger output capacitors will be required for applications with large transient loads to limit peak (See Datasheet)", 2 ADJ (in) "Adjust. This is the input to the error amplifier. This pin is internally clamped to +/-7V. It has a bias current of 4nA which flows into the pin (see curve of ADJ Pin Bias Current vs Temperature in the Typical Performance (See Datasheet)", 4 GND (power) "Ground.", 8 IN (power) "Input. Power is supplied to the device through the IN pin. A bypass capacitor is required on this pin if the device is more than six inches away from the main input filter capacitor. In general, the output impedance of a (See Datasheet)", 9 EP (power)
part B pins: 3 NC "No Connect. No Connect pins may be floated, tied to IN or tied to GND.", 5 NC "No Connect. No Connect pins may be floated, tied to IN or tied to GND.", 6 NC "No Connect. No Connect pins may be floated, tied to IN or tied to GND.", 7 NC "No Connect. No Connect pins may be floated, tied to IN or tied to GND."

## LT3014BHVEDD#PBF
designator U?
20 mA, Low Dropout Micropower Linear Regulator, 3 to 80 V Vin, Adjustable Vout, 8-pin SON (DD-8), -40 to 125 degC, Pb-Free; Manufacturer: Linear Technology; PartNumber: LT3014BHVEDD#PBF; Discrete Pass Element: no; Dropout Voltage(V): 0.35; Iout(mA): 20; Isupply(mA): 0.007; Noise(uV): 115; Number of Outputs: 1; Output Voltage: Adj; PSRR(dB): 70; Vin Max(V): 80; Vin Min(V): 3; Vout Max(V): 60; Vout Min(V): 1.22; DatasheetVersion: Rev. A; PackageVersion: Jun-10; PackageReference: DD-8; PackageDescription: 8-Pin Plastic DFN, Body 3 x 3 mm, Pitch 0.5 mm; Supplier 1: Digi-Key; Supplier Part Number 1: LT3014BHVEDD#PBF-ND; Supplier 2: Newark; Supplier Part Number 2: 57M7895; RoHS: TRUE; Mounting Technology: Surface Mount; Code_JEDEC: MO-229; ComponentLink1Description: Manufacturer URL; ComponentLink1URL: http://www.linear.com/; ComponentLink2Description: Datasheet; ComponentLink2URL: http://cds.linear.com/docs/en/datasheet/3014bfa.pdf; ComponentLink3Description: Package Specification; ComponentLink3URL: http://cds.linear.com/docs/en/packaging/DFN_8_05-08-1698.pdf
footprint LT-DD-8_V (SON, 8-Leads, Body 3x3mm, Pitch 0.5mm, Thermal Pad 1.65x2.38 mm, IPC Low Density)
part A pins: 1 OUT (power) "Output. The output supplies power to the load. A minimum output capacitor of 0.47uF is required to prevent oscillations. Larger output capacitors will be required for applications with large transient loads to limit peak (See Datasheet)", 2 ADJ (in) "Adjust. This is the input to the error amplifier. This pin is internally clamped to +/-7V. It has a bias current of 4nA which flows into the pin (see curve of ADJ Pin Bias Current vs Temperature in the Typical Performance (See Datasheet)", 4 GND (power) "Ground.", 8 IN (power) "Input. Power is supplied to the device through the IN pin. A bypass capacitor is required on this pin if the device is more than six inches away from the main input filter capacitor. In general, the output impedance of a (See Datasheet)", 9 EP (power)
part B pins: 3 NC "No Connect. No Connect pins may be floated, tied to IN or tied to GND.", 5 NC "No Connect. No Connect pins may be floated, tied to IN or tied to GND.", 6 NC "No Connect. No Connect pins may be floated, tied to IN or tied to GND.", 7 NC "No Connect. No Connect pins may be floated, tied to IN or tied to GND."

## LT3014BHVEDD#TR
designator U?
20 mA, Low Dropout Micropower Linear Regulator, 3 to 80 V Vin, Adjustable Vout, 8-pin SON (DD-8), -40 to 125 degC, Tape and Reel; Manufacturer: Linear Technology; PartNumber: LT3014BHVEDD#TR; Discrete Pass Element: no; Dropout Voltage(V): 0.35; Iout(mA): 20; Isupply(mA): 0.007; Noise(uV): 115; Number of Outputs: 1; Output Voltage: Adj; PSRR(dB): 70; Vin Max(V): 80; Vin Min(V): 3; Vout Max(V): 60; Vout Min(V): 1.22; DatasheetVersion: Rev. A; PackageVersion: Jun-10; PackageReference: DD-8; PackageDescription: 8-Pin Plastic DFN, Body 3 x 3 mm, Pitch 0.5 mm; Packing: Tape and Reel; RoHS: FALSE; Mounting Technology: Surface Mount; Code_JEDEC: MO-229; ComponentLink1Description: Manufacturer URL; ComponentLink1URL: http://www.linear.com/; ComponentLink2Description: Datasheet; ComponentLink2URL: http://cds.linear.com/docs/en/datasheet/3014bfa.pdf; ComponentLink3Description: Package Specification; ComponentLink3URL: http://cds.linear.com/docs/en/packaging/DFN_8_05-08-1698.pdf
footprint LT-DD-8_V (SON, 8-Leads, Body 3x3mm, Pitch 0.5mm, Thermal Pad 1.65x2.38 mm, IPC Low Density)
part A pins: 1 OUT (power) "Output. The output supplies power to the load. A minimum output capacitor of 0.47uF is required to prevent oscillations. Larger output capacitors will be required for applications with large transient loads to limit peak (See Datasheet)", 2 ADJ (in) "Adjust. This is the input to the error amplifier. This pin is internally clamped to +/-7V. It has a bias current of 4nA which flows into the pin (see curve of ADJ Pin Bias Current vs Temperature in the Typical Performance (See Datasheet)", 4 GND (power) "Ground.", 8 IN (power) "Input. Power is supplied to the device through the IN pin. A bypass capacitor is required on this pin if the device is more than six inches away from the main input filter capacitor. In general, the output impedance of a (See Datasheet)", 9 EP (power)
part B pins: 3 NC "No Connect. No Connect pins may be floated, tied to IN or tied to GND.", 5 NC "No Connect. No Connect pins may be floated, tied to IN or tied to GND.", 6 NC "No Connect. No Connect pins may be floated, tied to IN or tied to GND.", 7 NC "No Connect. No Connect pins may be floated, tied to IN or tied to GND."

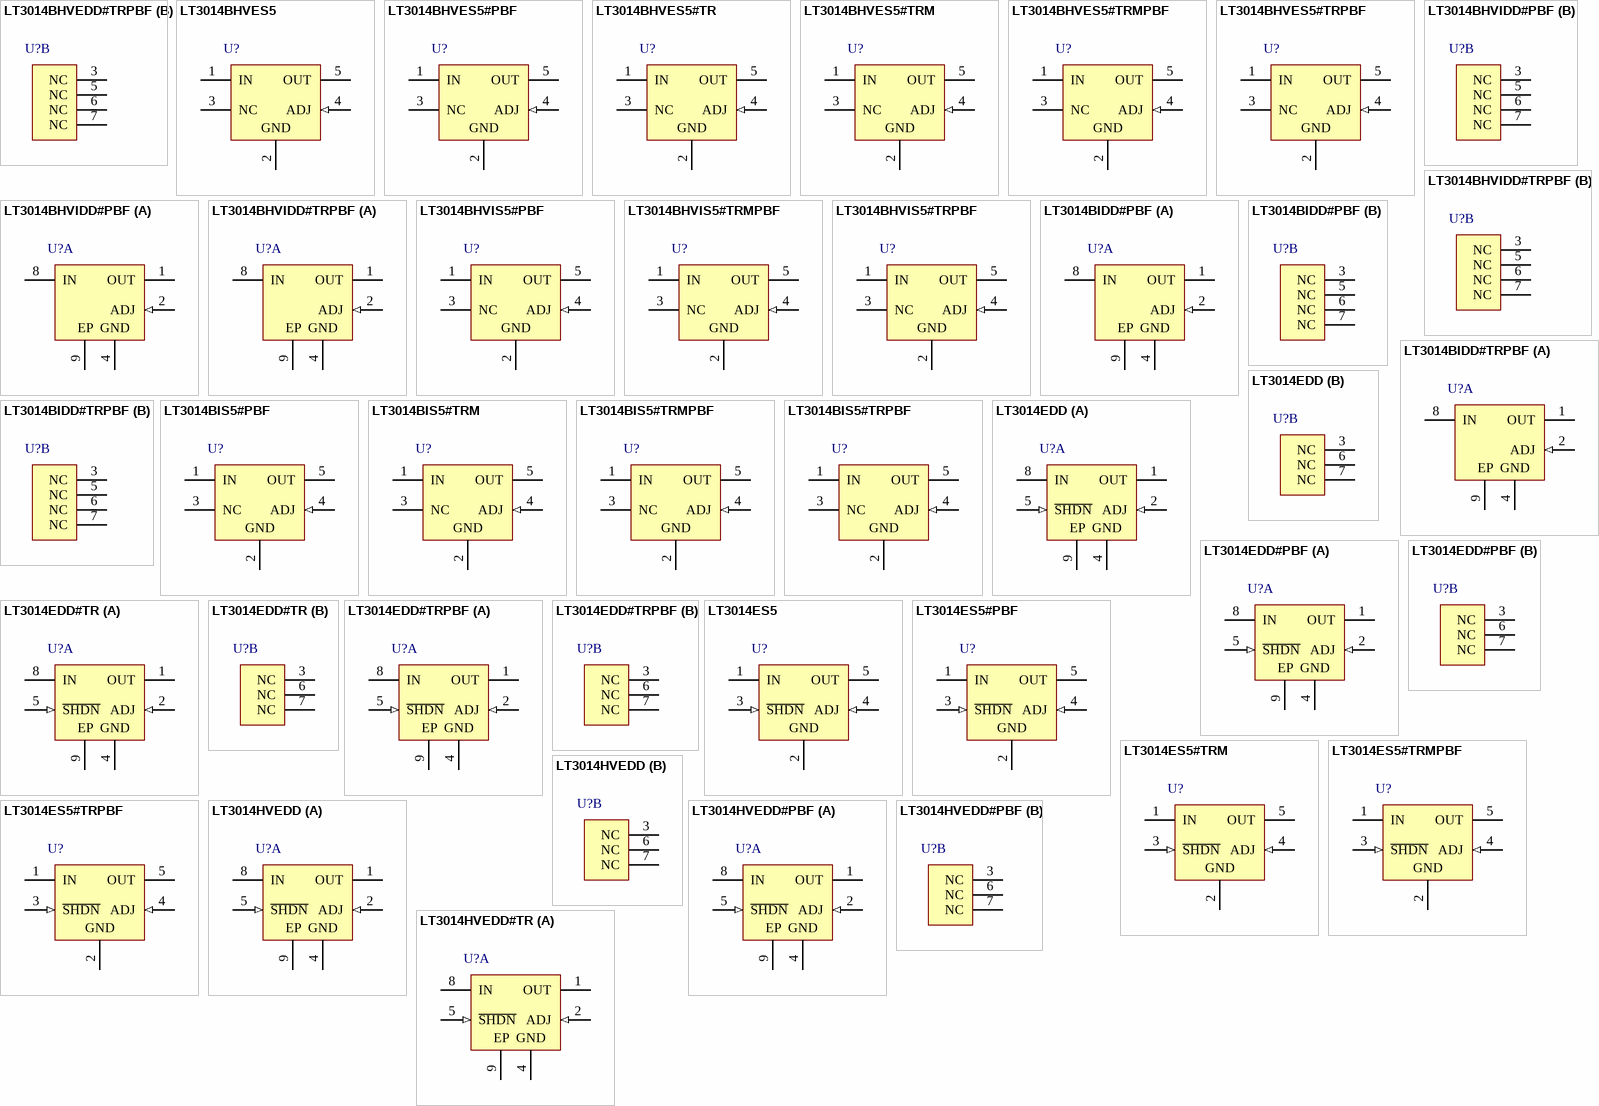
[diagram p46: symbols LT3014BHVEDD#TRPBF to LT3014HVEDD#TR]

## LT3014BHVEDD#TRPBF
designator U?
20 mA, Low Dropout Micropower Linear Regulator, 3 to 80 V Vin, Adjustable Vout, 8-pin SON (DD-8), -40 to 125 degC, Pb-Free, Tape and Reel; Manufacturer: Linear Technology; PartNumber: LT3014BHVEDD#TRPBF; Discrete Pass Element: no; Dropout Voltage(V): 0.35; Iout(mA): 20; Isupply(mA): 0.007; Noise(uV): 115; Number of Outputs: 1; Output Voltage: Adj; PSRR(dB): 70; Vin Max(V): 80; Vin Min(V): 3; Vout Max(V): 60; Vout Min(V): 1.22; DatasheetVersion: Rev. A; PackageVersion: Jun-10; PackageReference: DD-8; PackageDescription: 8-Pin Plastic DFN, Body 3 x 3 mm, Pitch 0.5 mm; Supplier 1: Digi-Key; Supplier Part Number 1: LT3014BHVEDD#TRPBF-ND; Packing: Tape and Reel; RoHS: TRUE; Mounting Technology: Surface Mount; Code_JEDEC: MO-229; ComponentLink1Description: Manufacturer URL; ComponentLink1URL: http://www.linear.com/; ComponentLink2Description: Datasheet; ComponentLink2URL: http://cds.linear.com/docs/en/datasheet/3014bfa.pdf; ComponentLink3Description: Package Specification; ComponentLink3URL: http://cds.linear.com/docs/en/packaging/DFN_8_05-08-1698.pdf
footprint LT-DD-8_V (SON, 8-Leads, Body 3x3mm, Pitch 0.5mm, Thermal Pad 1.65x2.38 mm, IPC Low Density)
part A pins: 1 OUT (power) "Output. The output supplies power to the load. A minimum output capacitor of 0.47uF is required to prevent oscillations. Larger output capacitors will be required for applications with large transient loads to limit peak (See Datasheet)", 2 ADJ (in) "Adjust. This is the input to the error amplifier. This pin is internally clamped to +/-7V. It has a bias current of 4nA which flows into the pin (see curve of ADJ Pin Bias Current vs Temperature in the Typical Performance (See Datasheet)", 4 GND (power) "Ground.", 8 IN (power) "Input. Power is supplied to the device through the IN pin. A bypass capacitor is required on this pin if the device is more than six inches away from the main input filter capacitor. In general, the output impedance of a (See Datasheet)", 9 EP (power)
part B pins: 3 NC "No Connect. No Connect pins may be floated, tied to IN or tied to GND.", 5 NC "No Connect. No Connect pins may be floated, tied to IN or tied to GND.", 6 NC "No Connect. No Connect pins may be floated, tied to IN or tied to GND.", 7 NC "No Connect. No Connect pins may be floated, tied to IN or tied to GND."